# EAGLE library part SBRIO_MIO (library formula electric)
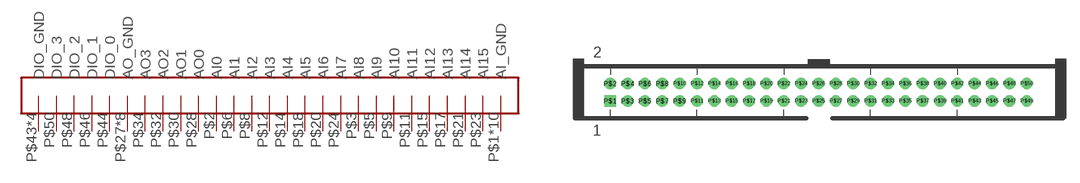
[diagram p2: symbol with the pads of SBRIO_J502_J503; footprint SBRIO_J502_J503]

Designator prefix -

## SBRIO_MIO  [SBRIO_J502_J503]
P$1  AI_GND  in
P$2  AI0  in
P$3  AI8  in
P$4  AI_GND  in
P$5  AI9  in
P$6  AI1  in
P$7  AI_GND  in
P$8  AI2  in
P$9  AI10  in
P$10  AI_GND  in
P$11  AI11  in
P$12  AI3  in
P$13  AI_GND  in
P$14  AI4  in
P$15  AI12  in
P$16  AI_GND  in
P$17  AI13  in
P$18  AI5  in
P$19  AI_GND  in
P$20  AI6  in
P$21  AI14  in
P$22  AI_GND  in
P$23  AI15  in
P$24  AI7  in
P$25  AI_GND  in
P$26  AI_GND  in
P$27  AO_GND  sup
P$28  AO0  out
P$29  AO_GND  sup
P$30  AO1  out
P$31  AO_GND  sup
P$32  AO2  out
P$33  AO_GND  sup
P$34  AO3  out
P$35  AO_GND  sup
P$37  AO_GND  sup
P$39  AO_GND  sup
P$41  AO_GND  sup
P$43  DIO_GND  sup
P$44  DIO_0
P$45  DIO_GND  sup
P$46  DIO_1
P$47  DIO_GND  sup
P$48  DIO_2
P$49  DIO_GND  sup
P$50  DIO_3

## Footprint SBRIO_J502_J503 (pad centres in mm)
50pin, 2.00mm spacing, Digikey: 952-2346-ND
drill 0.8 square: P$1 0,0
drill 0.8: P$2 0,2; P$3 2,0; P$4 2,2; P$5 4,0; P$6 4,2; P$7 6,0; P$8 6,2; P$9 8,0; P$10 8,2; P$11 10,0; P$12 10,2; P$13 12,0; P$14 12,2; P$15 14,0; P$16 14,2; P$17 16,0; P$18 16,2; P$19 18,0; P$20 18,2; P$21 20,0; P$22 20,2; P$23 22,0; P$24 22,2; P$25 24,0; P$26 24,2; P$27 26,0; P$28 26,2; P$29 28,0; P$30 28,2; P$31 30,0; P$32 30,2; P$33 32,0; P$34 32,2; P$35 34,0; P$36 34,2; P$37 36,0; P$38 36,2; P$39 38,0; P$40 38,2; P$41 40,0; P$42 40,2; P$43 42,0; P$44 42,2; P$45 44,0; P$46 44,2; P$47 46,0; P$48 46,2; P$49 48,0; P$50 48,2